# EAGLE library part MPU9250 (library Femtosat)
MPU-9250 9 Degree of Freedom IMU System in Package that contains MPU-6500 & AK8963 NC pin 19. 2-6 & 14-17 not internally connected. May be used for PCB trace routing. Datasheet <https://cdn.sparkfun.com/assets/learn_tutorials/5/5/0/MPU9250REV1.0.pdf> Adapted from SparkFun Libraries
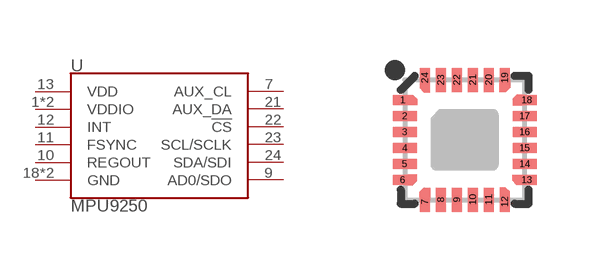
[diagram p3: symbol with the pads of QFN24-3X3; footprint QFN24-3X3]

Designator prefix U

## MPU9250 (DIGIKEY: 1428-1019-1-ND; VALUE: 9DoF IMU)  [QFN24-3X3]
1  VDDIO
7  AUX_CL
8  VDDIO
9  AD0/SDO
10  REGOUT
11  FSYNC
12  INT
13  VDD
18  GND
20  GND
21  AUX_DA
22  !CS
23  SCL/SCLK
24  SDA/SDI

## Footprint QFN24-3X3 (pad centres in mm)
24-Pin QFN - 3.0 x 3.0 mm - No center pad Note: No center pad per "Exposed Die Pad Precautions" section of the InvenSense MEMS Handling application note <http://www.digikey.com/Web%20Export/Supplier%20Content/invensense-1428/pdf/invensense-mems-handling.pdf>.
smd 0.495 x 0.25: 1 -1.552,1; 6 -1.552,-1; 13 1.552,-1; 18 1.552,1
smd 0.6 x 0.25: 2 -1.5,0.6; 3 -1.5,0.2; 4 -1.5,-0.2; 5 -1.5,-0.6; 14 1.5,-0.6; 15 1.5,-0.2; 16 1.5,0.2; 17 1.5,0.6
smd 0.25 x 0.495: 7 -1,-1.552; 12 1,-1.552; 19 1,1.552; 24 -1,1.552
smd 0.25 x 0.6: 8 -0.6,-1.5; 9 -0.2,-1.5; 10 0.2,-1.5; 11 0.6,-1.5; 20 0.6,1.5; 21 0.2,1.5; 22 -0.2,1.5; 23 -0.6,1.5